# Altium schematic symbol library Potentiometer_3Pin.Schlib: 1 symbol
Pins are listed as number, name and electrical type; pins without a type are passive.

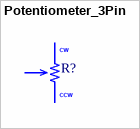
[diagram p0: symbol Potentiometer_3Pin]

## Potentiometer_3Pin
designator R?
Potentiometer
pins: 1 CW, 2 CCW, 3 S